# EAGLE library part MA06 (library con-amp-quick)
AMP QUICK CONNECTOR
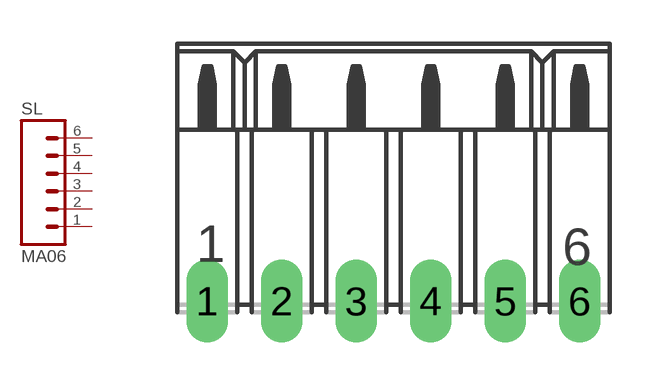
[diagram p32: symbol with the pads of 06PA; footprint 06PA]

Designator prefix SL

## MA06 (OC_FARNELL: unknown; OC_NEWARK: unknown)  [06PA]
1  1  pas
2  2  pas
3  3  pas
4  4  pas
5  5  pas
6  6  pas

## Footprint 06PA (pad centres in mm)
AMP QUICK CONNECTOR
drill 0.914 long: 1 -6.35,0; 2 -3.81,0; 3 -1.27,0; 4 1.27,0; 5 3.81,0; 6 6.35,0